# Altium schematic symbol library SBC5.SchLib: 66 symbols (part 3 of 4)
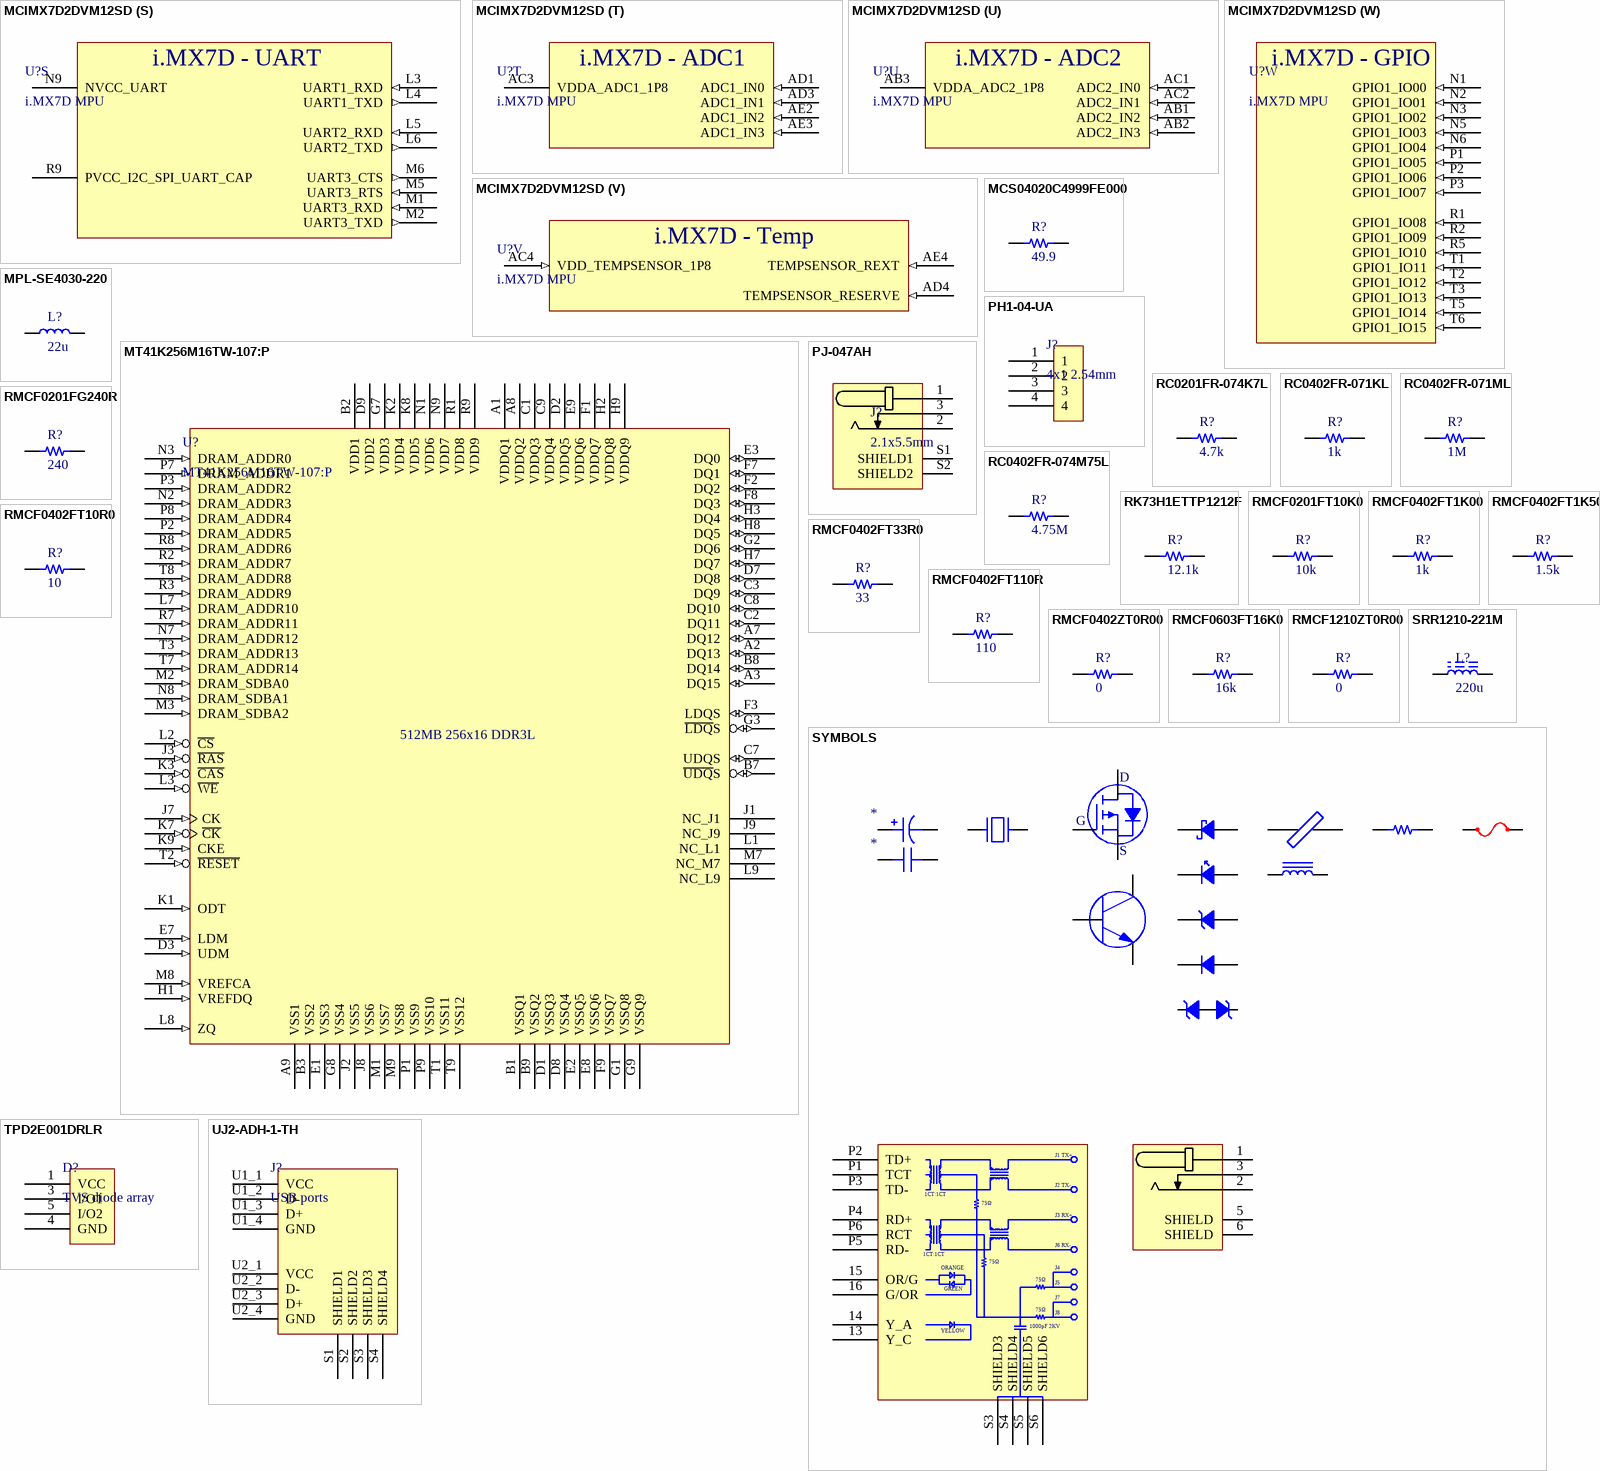
[diagram p5: symbols MCIMX7D2DVM12SD to UJ2-ADH-1-TH]

## MCIMX7D2DVM12SD
designator U?, comment i.MX7D MPU
Heterogeneous Multicore Processing Architecture; Manufacturer: NXP Freescale; Manufacturer Part Number: MCIMX7D2DVM12SD; Stock 1: 0; Pricing 1: 168=18.42238 (USD); ComponentLink1Description: Datasheet; ComponentLink1URL: https://www.nxp.com/docs/en/data-sheet/IMX7DCEC.pdf; ComponentLink2Description: Reference manual; ComponentLink2URL: https://www.nxp.com/docs/en/reference-manual/IMX7DRM.pdf; ComponentLink3Description: Hardware Development Guide; ComponentLink3URL: https://www.nxp.com/docs/en/user-guide/IMX7DSHDG.pdf; Supplier 1: Digi-Key; Supplier Part Number 1: 568-15401-ND
footprint BGA541C75P25X25_1900X1900X140 (BGA, 541-Leads, Body 19.00x19.00mmx1.40mm, Pitch 0.75mm)
ibis mx7d_19x19 (i.MX7D 19mm x 19mm 1.8V DDR3L Typical Case)
ibis mx7d_19x19 (i.MX7D 19mm x 19mm 3.3V DDR3L Typical Case)
part A pins: A1 VSS_001 "Ground", A3 VSS_002 "Ground", A6 VSS_003 "Ground", A9 VSS_004 "Ground", A13 VSS_005 "Ground", A17 VSS_006 "Ground", A21 VSS_007 "Ground", A25 VSS_008 "Ground", AA1 VSS_111 "Ground", AA2 VSS_112 "Ground", AA6 VSS_113 "Ground", AA8 VSS_114 "Ground", AA9 VDDD_1P0_CAP (power) "Secondary supply for 1P0 (internal regulator output). Requires external capacitors", AA10 PCIE_VP (power) "Supply for PCIe interface", AA11 PCIE_VP_TX (power) "Supply for PCIe PHY", AA12 PCIE_VP_RX (power) "Supply for PCIe PHY", AA15 VSS_115 "Ground", AA23 VSS_116 "Ground", AB4 VSS_117 "Ground", AB5 VSS_118 "Ground", AB7 VSS_119 "Ground", AB9 VSS_120 "Ground", AB12 VSS_121 "Ground", AC5 VDD_LPSR_1P0_CAP (power) "Secondary supply for LPSR (internal regulator output). Requires external capacitors", AC6 VSS_122 "Ground", AC9 VSS_123 "Ground", AC12 VSS_124 "Ground", AC15 VSS_125 "Ground", AC17 VSS_126 "Ground", AC19 VSS_127 "Ground", AC21 VSS_128 "Ground", AC23 VSS_129 "Ground", AD2 VSS_130 "Ground", AD5 VSS_131 "Ground", AD7 VSS_132 "Ground", AD8 VDD_SNVS_IN (power) "Primary supply for the SNVS regulator", AD9 VSS_133 "Ground", AD12 VSS_134 "Ground", AE1 VSS_135 "Ground", AE5 VSS_136 "Ground", AE7 VSS_137 "Ground", AE8 VDD_SNVS_1P8_CAP (power) "Secondary supply for SNVS (internal regulator output). Requires external capacitors", AE9 VSS_138 "Ground", AE12 VSS_139 "Ground", AE24 VSS_140 "Ground", AE25 VSS_141 "Ground", B3 VSS_009 "Ground", B6 VSS_010 "Ground", B9 VSS_011 "Ground", B13 VSS_012 "Ground", B17 VSS_013 "Ground", B21 VSS_014 "Ground", C9 VSS_015 "Ground", C13 VSS_016 "Ground", C14 VDD_SOC_01 (power) "Supply for SOC", C15 VSS_017 "Ground", C16 VSS_018 "Ground", C17 VDD_ARM_1 (power) "Supply for ARM", C18 VSS_019 "Ground", C19 VSS_020 "Ground", C20 VDD_ARM_2 (power) "Supply for ARM", D1 VSS_021 "Ground", D2 VSS_022 "Ground", D4 VSS_023 "Ground", D7 VSS_024 "Ground", D10 VSS_025 "Ground", D14 VDD_SOC_02 (power) "Supply for SOC", D17 VDD_ARM_3 (power) "Supply for ARM", D20 VDD_ARM_4 (power) "Supply for ARM", D22 VSS_026 "Ground", F3 VDD_SOC_03 (power) "Supply for SOC", F4 VDD_SOC_04 (power) "Supply for SOC", F7 VSS_027 "Ground", F8 VSS_028 "Ground", F11 VSS_029 "Ground", F13 VSS_030 "Ground", F18 VDD_SOC_05 (power) "Supply for SOC", F19 VDD_SOC_06 (power) "Supply for SOC", F22 VDD_ARM_5 (power) "Supply for ARM", F23 VDD_ARM_6 (power) "Supply for ARM", G4 VSS_031 "Ground", G7 VSS_032 "Ground", G9 VSS_033 "Ground", G11 VSS_034 "Ground", G13 VSS_035 "Ground", G15 VSS_036 "Ground", G17 VSS_037 "Ground", G19 VSS_038 "Ground", G22 VSS_039 "Ground", H1 VSS_040 "Ground", H2 VSS_041 "Ground", H12 VDD_USB_H_1P2 (power) "Supply input for the USB HSIC Interface", H18 MIPI_VREG_0P4V, J3 VDD_SOC_07 (power) "Supply for SOC", J4 VDD_SOC_08 (power) "Supply for SOC", J7 VSS_042 "Ground", J13 MIPI_VDDA_1P8 (power) "Default Function: MIPI_VDDA_1P8", J15 MIPI_VDDD_1P0_01 (power) "Default Function: MIPI_VDDD_1P0", J17 MIPI_VDDD_1P0_02 (power) "Default Function: MIPI_VDDD_1P0", J19 VSS_043 "Ground", J22 VDD_ARM_7 (power) "Supply for ARM", J23 VDD_ARM_8 (power) "Supply for ARM", K4 VSS_044 "Ground", K10 VSS_045 "Ground", K12 VSS_046 "Ground", K14 VSS_047 "Ground", K16 VSS_048 "Ground", K22 VSS_049 "Ground", L7 VSS_050 "Ground", L11 VSS_051 "Ground", L13 VSS_052 "Ground", L15 VSS_053 "Ground", L19 VSS_054 "Ground", M3 VDD_SOC_09 (power) "Supply for SOC", M4 VDD_SOC_10 (power) "Supply for SOC", M10 VSS_055 "Ground", M12 VSS_056 "Ground", M14 VSS_057 "Ground", M16 VSS_058 "Ground", M24 VSS_059 "Ground", M25 VSS_060 "Ground", N4 VSS_061 "Ground", N7 VSS_062 "Ground", N11 VSS_063 "Ground", N13 VSS_064 "Ground", N15 VSS_065 "Ground", N19 VSS_066 "Ground", P8 NVCC_GPIO1 (power) "Supply for GPIO1 interface", P10 VSS_067 "Ground", P12 VSS_068 "Ground", P14 VSS_069 "Ground", P16 VSS_070 "Ground", P18 VDD_SOC_11 (power) "Supply for SOC", R3 VDD_SOC_12 (power) "Supply for SOC", R4 VDD_SOC_13 (power) "Supply for SOC", R7 VSS_071 "Ground", R11 VSS_072 "Ground", R13 VSS_073 "Ground", R15 VSS_074 "Ground", R17 VDD_SOC_14 (power) "Supply for SOC", R19 VSS_075 "Ground", R20 VSS_076 "Ground", R21 VSS_077 "Ground", R23 VSS_078 "Ground", T4 VSS_079 "Ground", T8 NVCC_GPIO2 (power) "Supply for GPIO2 interface", T10 VSS_080 "Ground", T12 VSS_081 "Ground", T14 VSS_082 "Ground", T16 VSS_083 "Ground", T18 VDD_SOC_15 (power) "Supply for SOC", T20 VSS_084 "Ground", U7 VSS_085 "Ground", U9 VDD_1P2_CAP (power) "Supply for HSIC", U11 VSS_086 "Ground", U13 VDD_SOC_16 (power) "Supply for SOC", U15 VDD_SOC_17 (power) "Supply for SOC", U17 VDD_SOC_18 (power) "Supply for SOC", U19 VSS_087 "Ground", U20 VSS_088 "Ground", U23 VSS_089 "Ground", V3 VDDA_1P0_CAP (power) "Secondary supply for 1P0 (internal regulator output). Requires external capacitors", V6 VDDA_1P8_IN_1 (power), V8 FUSE_FSOURCE0 (power), V10 PVCC_GPIO_CAP (power) "Secondary supply for GPIO (internal regulator output). Requires external capacitors", V12 VDD_SOC_19 (power) "Supply for SOC", V14 VDD_SOC_20 (power) "Supply for SOC", V16 VDD_SOC_21 (power) "Supply for SOC", V18 VDD_SOC_22 (power) "Supply for SOC", V20 VSS_090 "Ground", W1 VSS_091 "Ground", W2 VSS_092 "Ground", W4 VSS_093 "Ground", W5 VDDA_1P8_IN_2 (power), W6 VDD_LPSR_IN (power) "Supply for LPSR", W7 VSS_094 "Ground", W9 VSS_095 "Ground", W11 VSS_096 "Ground", W13 VSS_097 "Ground", W15 VSS_098 "Ground", W17 VSS_099 "Ground", W19 VSS_100 "Ground", W20 VSS_101 "Ground", W23 VSS_102 "Ground", Y6 VSS_103 "Ground", Y9 VDDA_PHY_1P8 (power), Y10 PCIE_VPH (power), Y11 PCIE_VPH_TX (power), Y12 PCIE_VPH_RX (power), Y13 VSS_104 "Ground", Y14 VSS_105 "Ground", Y15 VSS_106 "Ground", Y16 VSS_107 "Ground", Y17 VSS_108 "Ground", Y18 VSS_109 "Ground", Y19 VSS_110 "Ground"
part B pins: A7 USB_OTG1_REXT (io) "Default Function: USB_OTG1_REXT", A8 USB_OTG1_DN (io) "Default Function: USB_OTG1_DN", B7 USB_OTG1_ID (in) "Default Function: USB_OTG1_ID", B8 USB_OTG1_DP (io) "Default Function: USB_OTG1_DP", C7 ~{USB_OTG1_CHD_B} (io) "Default Function: USB_OTG1_CHD_B", C8 USB_OTG1_VBUS (power), F10 USB_OTG1_VDDA_3P3_IN (power), H10 VDD_USB_OTG1_1P0_CAP (power) "Secondary supply for USB OTG (internal regulator output). Requires external capacitors"
part C pins: A10 USB_OTG2_DN (io) "Default Function: USB_OTG2_DN", A11 USB_OTG2_REXT (io) "Default Function: USB_OTG2_REXT", B10 USB_OTG2_DP (io) "Default Function: USB_OTG2_DP", B11 USB_OTG2_ID (in) "Default Function: USB_OTG2_ID", C10 USB_OTG2_VBUS (power), F9 USB_OTG2_VDDA_3P3_IN (power), J11 VDD_USB_OTG2_1P0_CAP (power) "Secondary supply for USB OTG (internal regulator output). Requires external capacitors"
part D pins: A12 USB_H_DATA (io) "Default Function: USB_H_DATA", B12 USB_H_STROBE (io) "Default Function: USB_H_STROBE"
part E pins: AA14 DRAM_ODT1 (out) "Ball type: DDR Default Function: DRAM_ODT1", AA16 NVCC_DRAM_06 (power) "DDR Power Pin 6", AA17 NVCC_DRAM_07 (power) "DDR Power Pin 7", AA18 NVCC_DRAM_08 (power) "DDR Power Pin 8", AA19 NVCC_DRAM_09 (power) "DDR Power Pin 9", AA20 NVCC_DRAM_10 (power) "DDR Power Pin 10", AA21 NVCC_DRAM_11 (power) "DDR Power Pin 11", AA22 ~{DRAM_CS1_B} (out) "Ball type: DDR Default Function: DRAM_CS1_B", AA24 DRAM_DQM2 (io) "Ball type: DDR Default Function: DRAM_DQM2", AA25 DRAM_DATA16 (io) "Ball type: DDR Default Function: DRAM_DATA16", AB13 DRAM_ZQPAD (io) "DDR output buffer driver calibration reference voltage input. Connect DRAM_ZQPAD to an external 240 Ω 1% resistor to Vss", AB14 ~{DRAM_SDWE_B} (out) "Ball type: DDR Default Function: DRAM_SDWE_B", AB15 ~{DRAM_RAS_B} (out) "Ball type: DDR Default Function: DRAM_RAS_B", AB16 DRAM_ADDR01 (out) "Ball type: DDR Default Function: DRAM_ADDR01", AB17 DRAM_SDCKE0 (out) "Ball type: DDR Default Function: DRAM_SDCKE0", AB18 DRAM_ADDR14 (out) "Ball type: DDR Default Function: DRAM_ADDR14", AB19 DRAM_ADDR00 (out) "Ball type: DDR Default Function: DRAM_ADDR00", AB20 DRAM_ADDR15 (out) "Ball type: DDR Default Function: DRAM_ADDR15", AB21 DRAM_ADDR04 (out) "Ball type: DDR Default Function: DRAM_ADDR04", AB22 DRAM_SDCKE1 (out) "Ball type: DDR Default Function: DRAM_SDCKE1", AB23 ~{DRAM_CS0_B} (out) "Ball type: DDR Default Function: DRAM_CS0_B", AB24 DRAM_DATA22 (io) "Ball type: DDR Default Function: DRAM_DATA22", AB25 DRAM_DATA21 (io) "Ball type: DDR Default Function: DRAM_DATA21", AC13 DRAM_VREF (power) "DDR Differential Reference", AC14 ~{DRAM_CAS_B} (out) "Ball type: DDR Default Function: DRAM_CAS_B", AC16 DRAM_ODT0 (out) "Ball type: DDR Default Function: DRAM_ODT0", AC18 DRAM_ADDR02 (out) "Ball type: DDR Default Function: DRAM_ADDR02", AC20 DRAM_ADDR03 (out) "Ball type: DDR Default Function: DRAM_ADDR03", AC22 DRAM_RESET (out) "Ball type: DDR Default Function: DRAM_RESET", AC24 DRAM_DATA23 (io) "Ball type: DDR Default Function: DRAM_DATA23", AC25 DRAM_DATA20 (io) "Ball type: DDR Default Function: DRAM_DATA20", AD13 DRAM_DATA14 (io) "Ball type: DDR Default Function: DRAM_DATA14", AD14 DRAM_DATA13 (io) "Ball type: DDR Default Function: DRAM_DATA13", AD15 DRAM_SDQS1_P (io) "Ball type: DDRCLK Default Function: DRAM_SDQS1_P", AD16 DRAM_DATA11 (io) "Ball type: DDR Default Function: DRAM_DATA11", AD17 DRAM_DQM1 (io) "Ball type: DDR Default Function: DRAM_DQM1", AD18 DRAM_DATA06 (io) "Ball type: DDR Default Function: DRAM_DATA06", AD19 DRAM_DATA05 (io) "Ball type: DDR Default Function: DRAM_DATA05", AD20 DRAM_DQM0 (io) "Ball type: DDR Default Function: DRAM_DQM0", AD21 DRAM_SDQS0_N (io) "Ball type: DDRCLK Default Function: DRAM_SDQS0_N", AD22 DRAM_DATA00 (io) "Ball type: DDR Default Function: DRAM_DATA00", AD23 DRAM_DATA01 (io) "Ball type: DDR Default Function: DRAM_DATA01", AD24 DRAM_SDCLK0_P "Ball type: DDRCLK Default Function: DRAM_SDCLK0_P", AD25 DRAM_SDCLK0_N "Ball type: DDRCLK Default Function: DRAM_SDCLK0_N", AE13 DRAM_DATA15 (io) "Ball type: DDR Default Function: DRAM_DATA15", AE14 DRAM_DATA08 (io) "Ball type: DDR Default Function: DRAM_DATA08", AE15 DRAM_SDQS1_N (io) "Ball type: DDRCLK Default Function: DRAM_SDQS1_N", AE16 DRAM_DATA12 (io) "Ball type: DDR Default Function: DRAM_DATA12", AE17 DRAM_DATA10 (io) "Ball type: DDR Default Function: DRAM_DATA10", AE18 DRAM_DATA09 (io) "Ball type: DDR Default Function: DRAM_DATA09", AE19 DRAM_DATA07 (io) "Ball type: DDR Default Function: DRAM_DATA07", AE20 DRAM_DATA02 (io) "Ball type: DDR Default Function: DRAM_DATA02", AE21 DRAM_SDQS0_P (io) "Ball type: DDRCLK Default Function: DRAM_SDQS0_P", AE22 DRAM_DATA04 (io) "Ball type: DDR Default Function: DRAM_DATA04", AE23 DRAM_DATA03 (io) "Ball type: DDR Default Function: DRAM_DATA03", N23 DRAM_SDBA2 (out) "Ball type: DDR Default Function: DRAM_SDBA2", N24 DRAM_DATA25 (io) "Ball type: DDR Default Function: DRAM_DATA25", N25 DRAM_DATA27 (io) "Ball type: DDR Default Function: DRAM_DATA27", P22 DRAM_SDBA1 (out) "Ball type: DDR Default Function: DRAM_SDBA1", P23 DRAM_ADDR13 (out) "Ball type: DDR Default Function: DRAM_ADDR13", P24 DRAM_DQM3 (io) "Ball type: DDR Default Function: DRAM_DQM3", P25 DRAM_DATA26 (io) "Ball type: DDR Default Function: DRAM_DATA26", R22 DRAM_SDBA0 (out) "Ball type: DDR Default Function: DRAM_SDBA0", R24 DRAM_DATA29 (io) "Ball type: DDR Default Function: DRAM_DATA29", R25 DRAM_DATA24 (io) "Ball type: DDR Default Function: DRAM_DATA24", T21 NVCC_DRAM_01 (power) "DDR Power Pin 1", T22 DRAM_ADDR12 (out) "Ball type: DDR Default Function: DRAM_ADDR12", T23 DRAM_ADDR10 (out) "Ball type: DDR Default Function: DRAM_ADDR10", T24 DRAM_SDQS3_P (io) "Ball type: DDRCLK Default Function: DRAM_SDQS3_P", T25 DRAM_SDQS3_N (io) "Ball type: DDRCLK Default Function: DRAM_SDQS3_N", U21 NVCC_DRAM_02 (power) "DDR Power Pin 2", U22 DRAM_ADDR11 (out) "Ball type: DDR Default Function: DRAM_ADDR11", U24 DRAM_DATA30 (io) "Ball type: DDR Default Function: DRAM_DATA30", U25 DRAM_DATA28 (io) "Ball type: DDR Default Function: DRAM_DATA28", V21 NVCC_DRAM_03 (power) "DDR Power Pin 3", V22 DRAM_ADDR06 (out) "Ball type: DDR Default Function: DRAM_ADDR06", V23 DRAM_ADDR09 (out) "Ball type: DDR Default Function: DRAM_ADDR09", V24 DRAM_DATA31 (io) "Ball type: DDR Default Function: DRAM_DATA31", V25 DRAM_DATA18 (io) "Ball type: DDR Default Function: DRAM_DATA18", W21 NVCC_DRAM_04 (power) "DDR Power Pin 4", W22 DRAM_ADDR08 (out) "Ball type: DDR Default Function: DRAM_ADDR08", W24 DRAM_DATA17 (io) "Ball type: DDR Default Function: DRAM_DATA17", W25 DRAM_DATA19 (io) "Ball type: DDR Default Function: DRAM_DATA19", Y20 NVCC_DRAM_CKE (power) "DDR Clock Power Pin", Y21 NVCC_DRAM_05 (power) "DDR Power Pin 5", Y22 DRAM_ADDR07 (out) "Ball type: DDR Default Function: DRAM_ADDR07", Y23 DRAM_ADDR05 (out) "Ball type: DDR Default Function: DRAM_ADDR05", Y24 DRAM_SDQS2_P (io) "Ball type: DDRCLK Default Function: DRAM_SDQS2_P", Y25 DRAM_SDQS2_N (io) "Ball type: DDRCLK Default Function: DRAM_SDQS2_N"
part F pins: AA3 SNVS_TAMPER8 (in) "Ball type: Analog Default Function: SNVS_TAMPER8", AA4 SNVS_TAMPER6 (in) "Ball type: Analog Default Function: SNVS_TAMPER6", AA5 SNVS_TAMPER4 (in) "Ball type: Analog Default Function: SNVS_TAMPER4", AA7 SNVS_TAMPER0 (in) "Ball type: Analog Default Function: SNVS_TAMPER0", AB6 SNVS_TAMPER2 (in) "Ball type: Analog Default Function: SNVS_TAMPER2", AB8 SNVS_PMIC_ON_REQ (out) "Default Function: SNVS_PMIC_ON_REQ", AC7 CCM_PMIC_STBY_REQ (out) "Default Function: CCM_PMIC_STBY_REQ", AC8 ONOFF (in) "Default Function: ONOFF", AD6 RTC_XTALO (out) "Default Function: RTC_XTALO", AE6 RTC_XTALI (in) "Default Function: RTC_XTALI", P4 BOOT_MODE0 (in) "Ball type: GPIO Default Mode: ALT0 Default Function: BOOT_MODE0 Pull Down Value: 100K", P5 BOOT_MODE1 (in) "Ball type: GPIO Default Mode: ALT0 Default Function: BOOT_MODE1 Pull Down Value: 100K", P6 TEST_MODE (in) "Ball type: GPIO Default Mode: ALT0 Default Function: TEST_MODE Pull Down Value: 100K", R6 ~{POR_B} (in) "Ball type: GPIO Default Mode: ALT0 Default Function: POR_B Pull UP Value: 100K", U1 JTAG_MOD (in) "Ball type: GPIO Default Mode: ALT0 Default Function: JTAG_MOD Pull UP Value: 100K", U2 ~{JTAG_TRST_B} (in) "Ball type: GPIO Default Mode: ALT0 Default Function: JTAG_TRST_B Pull UP Value: 47K", U3 JTAG_TDI (in) "Ball type: GPIO Default Mode: ALT0 Default Function: JTAG_TDI Pull UP Value: 47K", U4 JTAG_TMS (in) "Ball type: GPIO Default Mode: ALT0 Default Function: JTAG_TMS Pull UP Value: 47K", U5 JTAG_TCK (in) "Ball type: GPIO Default Mode: ALT0 Default Function: JTAG_TCK Pull UP Value: 47K", U6 JTAG_TDO (out) "Ball type: GPIO Default Mode: ALT0 Default Function: JTAG_TDO Pull UP Value: 100K", V1 XTALI (in) "Default Function: XTALI", V2 XTALO (out) "Default Function: XTALO", V4 GPANAIO "Test signal. Should be left unconnected.", V5 VDD_XTAL_1P8, W3 CCM_CLK2 (in) "Default Function: CCM_CLK2", Y1 CCM_CLK1_N (in) "Default Function: CCM_CLK1_N", Y2 CCM_CLK1_P (out) "Default Function: CCM_CLK1_P", Y3 SNVS_TAMPER9 (in) "Ball type: Analog Default Function: SNVS_TAMPER9", Y4 SNVS_TAMPER7 (in) "Ball type: Analog Default Function: SNVS_TAMPER7", Y5 SNVS_TAMPER5 (in) "Ball type: Analog Default Function: SNVS_TAMPER5", Y7 SNVS_TAMPER3 (in) "Ball type: Analog Default Function: SNVS_TAMPER3", Y8 SNVS_TAMPER1 (in) "Ball type: Analog Default Function: SNVS_TAMPER1"
part G pins: A22 LCD_DATA01 (in) "Ball type: GPIO Default Mode: ALT5 Default Function: GPIO3_IO[6] Pull Down Value: 100K", A23 LCD_DATA03 (in) "Ball type: GPIO Default Mode: ALT5 Default Function: GPIO3_IO[8] Pull Down Value: 100K", A24 LCD_DATA06 (in) "Ball type: GPIO Default Mode: ALT5 Default Function: GPIO3_IO[11] Pull Down Value: 100K", B22 LCD_DATA02 (in) "Ball type: GPIO Default Mode: ALT5 Default Function: GPIO3_IO[7] Pull Down Value: 100K", B23 LCD_DATA05 (in) "Ball type: GPIO Default Mode: ALT5 Default Function: GPIO3_IO[10] Pull Down Value: 100K", B24 LCD_DATA10 (in) "Ball type: GPIO Default Mode: ALT5 Default Function: GPIO3_IO[15] Pull Down Value: 100K", B25 LCD_DATA16 (in) "Ball type: GPIO Default Mode: ALT5 Default Function: GPIO3_IO[21] Pull Down Value: 100K", C21 LCD_RESET (in) "Ball type: GPIO Default Mode: ALT5 Default Function: GPIO3_IO[4] Pull Down Value: 100K", C22 LCD_DATA04 (in) "Ball type: GPIO Default Mode: ALT5 Default Function: GPIO3_IO[9] Pull Down Value: 100K", C23 LCD_DATA09 (in) "Ball type: GPIO Default Mode: ALT5 Default Function: GPIO3_IO[14] Pull Down Value: 100K", C24 LCD_DATA15 (in) "Ball type: GPIO Default Mode: ALT5 Default Function: GPIO3_IO[20] Pull Down Value: 100K", C25 LCD_DATA20 (in) "Ball type: GPIO Default Mode: ALT5 Default Function: GPIO3_IO[25] Pull Down Value: 100K", D21 LCD_DATA00 (in) "Ball type: GPIO Default Mode: ALT5 Default Function: GPIO3_IO[5] Pull Down Value: 100K", D23 LCD_DATA14 (in) "Ball type: GPIO Default Mode: ALT5 Default Function: GPIO3_IO[19] Pull Down Value: 100K", D24 LCD_DATA19 (in) "Ball type: GPIO Default Mode: ALT5 Default Function: GPIO3_IO[24] Pull Down Value: 100K", D25 LCD_DATA22 (in) "Ball type: GPIO Default Mode: ALT5 Default Function: GPIO3_IO[27] Pull Down Value: 100K", E20 LCD_CLK (in) "Ball type: GPIO Default Mode: ALT5 Default Function: GPIO3_IO[0] Pull Down Value: 100K", E21 LCD_DATA08 (in) "Ball type: GPIO Default Mode: ALT5 Default Function: GPIO3_IO[13] Pull Down Value: 100K", E22 LCD_DATA13 (in) "Ball type: GPIO Default Mode: ALT5 Default Function: GPIO3_IO[18] Pull Down Value: 100K", E23 LCD_DATA18 (in) "Ball type: GPIO Default Mode: ALT5 Default Function: GPIO3_IO[23] Pull Down Value: 100K", E24 LCD_DATA21 (in) "Ball type: GPIO Default Mode: ALT5 Default Function: GPIO3_IO[26] Pull Down Value: 100K", E25 LCD_HSYNC (in) "Ball type: GPIO Default Mode: ALT5 Default Function: GPIO3_IO[2] Pull Down Value: 100K", F20 LCD_DATA07 (in) "Ball type: GPIO Default Mode: ALT5 Default Function: GPIO3_IO[12] Pull Down Value: 100K", F21 LCD_DATA12 (in) "Ball type: GPIO Default Mode: ALT5 Default Function: GPIO3_IO[17] Pull Down Value: 100K", F24 LCD_VSYNC (in) "Ball type: GPIO Default Mode: ALT5 Default Function: GPIO3_IO[3] Pull Down Value: 100K", F25 LCD_ENABLE (in) "Ball type: GPIO Default Mode: ALT5 Default Function: GPIO3_IO[1] Pull Down Value: 100K", G20 LCD_DATA11 (in) "Ball type: GPIO Default Mode: ALT5 Default Function: GPIO3_IO[16] Pull Down Value: 100K", G21 LCD_DATA17 (in) "Ball type: GPIO Default Mode: ALT5 Default Function: GPIO3_IO[22] Pull Down Value: 100K", G23 LCD_DATA23 (in) "Ball type: GPIO Default Mode: ALT5 Default Function: GPIO3_IO[28] Pull Down Value: 100K", K18 NVCC_LCD (power) "Supply for LCD interface", N17 PVCC_EPDC_LCD_CAP (power) "Secondary supply for EPDC_LCD (internal regulator output). Requires external capacitors"
part H pins: G24 EPDC_SDCE1 (out) "Ball type: GPIO Default Mode: ALT5 Default Function: GPIO2_IO[21] Pull Down Value: 100K", G25 EPDC_SDCE0 (out) "Ball type: GPIO Default Mode: ALT5 Default Function: GPIO2_IO[20] Pull Down Value: 100K", H20 EPDC_SDSHR (out) "Ball type: GPIO Default Mode: ALT5 Default Function: GPIO2_IO[19] Pull Down Value: 100K", H21 EPDC_SDOE (out) "Ball type: GPIO Default Mode: ALT5 Default Function: GPIO2_IO[18] Pull Down Value: 100K", H22 EPDC_SDCE3 (out) "Ball type: GPIO Default Mode: ALT5 Default Function: GPIO2_IO[23] Pull Down Value: 100K", H23 EPDC_SDCE2 (out) "Ball type: GPIO Default Mode: ALT5 Default Function: GPIO2_IO[22] Pull Down Value: 100K", H24 EPDC_PWRCOM (out) "Ball type: GPIO Default Mode: ALT5 Default Function: GPIO2_IO[30] Pull Down Value: 100K", H25 EPDC_GDSP (out) "Ball type: GPIO Default Mode: ALT5 Default Function: GPIO2_IO[27] Pull Down Value: 100K", J20 EPDC_SDLE (out) "Ball type: GPIO Default Mode: ALT5 Default Function: GPIO2_IO[17] Pull Down Value: 100K", J21 EPDC_SDCLK (out) "Ball type: GPIO Default Mode: ALT5 Default Function: GPIO2_IO[16] Pull Down Value: 100K", J24 EPDC_GDOE (out) "Ball type: GPIO Default Mode: ALT5 Default Function: GPIO2_IO[25] Pull Down Value: 100K", J25 EPDC_GDCLK (out) "Ball type: GPIO Default Mode: ALT5 Default Function: GPIO2_IO[24] Pull Down Value: 100K", K20 EPDC_PWRSTAT (in) "Ball type: GPIO Default Mode: ALT5 Default Function: GPIO2_IO[31] Pull Down Value: 100K", K21 EPDC_GDRL (out) "Ball type: GPIO Default Mode: ALT5 Default Function: GPIO2_IO[26] Pull Down Value: 100K", K23 EPDC_BDR1 (out) "Ball type: GPIO Default Mode: ALT5 Default Function: GPIO2_IO[29] Pull Down Value: 100K", K24 EPDC_BDR0 (out) "Ball type: GPIO Default Mode: ALT5 Default Function: GPIO2_IO[28] Pull Down Value: 100K", K25 EPDC_D15 (out) "Ball type: GPIO Default Mode: ALT5 Default Function: GPIO2_IO[15] Pull Down Value: 100K", L17 NVCC_EPDC2 (power) "Supply for EPDC interface", L20 EPDC_D14 (out) "Ball type: GPIO Default Mode: ALT5 Default Function: GPIO2_IO[14] Pull Down Value: 100K", L21 EPDC_D13 (out) "Ball type: GPIO Default Mode: ALT5 Default Function: GPIO2_IO[13] Pull Down Value: 100K", L22 EPDC_D12 (out) "Ball type: GPIO Default Mode: ALT5 Default Function: GPIO2_IO[12] Pull Down Value: 100K", L23 EPDC_D11 (out) "Ball type: GPIO Default Mode: ALT5 Default Function: GPIO2_IO[11] Pull Down Value: 100K", L24 EPDC_D10 (out) "Ball type: GPIO Default Mode: ALT5 Default Function: GPIO2_IO[10] Pull Down Value: 100K", L25 EPDC_D09 (out) "Ball type: GPIO Default Mode: ALT5 Default Function: GPIO2_IO[9] Pull Down Value: 100K", M18 NVCC_EPDC1 (power) "Supply for EPDC interface", M20 EPDC_D05 (out) "Ball type: GPIO Default Mode: ALT5 Default Function: GPIO2_IO[5] Pull Down Value: 100K", M21 EPDC_D06 (out) "Ball type: GPIO Default Mode: ALT5 Default Function: GPIO2_IO[6] Pull Down Value: 100K", M22 EPDC_D07 (out) "Ball type: GPIO Default Mode: ALT5 Default Function: GPIO2_IO[7] Pull Down Value: 100K", M23 EPDC_D08 (out) "Ball type: GPIO Default Mode: ALT5 Default Function: GPIO2_IO[8] Pull Down Value: 100K", N20 EPDC_D02 (out) "Ball type: GPIO Default Mode: ALT5 Default Function: GPIO2_IO[2] Pull Down Value: 100K", N21 EPDC_D03 (out) "Ball type: GPIO Default Mode: ALT5 Default Function: GPIO2_IO[3] Pull Down Value: 100K", N22 EPDC_D04 (out) "Ball type: GPIO Default Mode: ALT5 Default Function: GPIO2_IO[4] Pull Down Value: 100K", P20 EPDC_D00 (out) "Ball type: GPIO Default Mode: ALT5 Default Function: GPIO2_IO[0] Pull Down Value: 100K", P21 EPDC_D01 (out) "Ball type: GPIO Default Mode: ALT5 Default Function: GPIO2_IO[1] Pull Down Value: 100K"
part I pins: C11 SAI1_TXC (io) "Ball type: GPIO Default Mode: ALT5 Default Function: GPIO6_IO[13] Pull Down Value: 100K", C12 SAI1_RXFS (io) "Ball type: GPIO Default Mode: ALT5 Default Function: GPIO6_IO[16] Pull Down Value: 100K", D8 SAI2_TXC (io) "Ball type: GPIO Default Mode: ALT5 Default Function: GPIO6_IO[20] Pull Down Value: 100K", D9 SAI2_TXFS (io) "Ball type: GPIO Default Mode: ALT5 Default Function: GPIO6_IO[19] Pull Down Value: 100K", D11 SAI1_TXFS (io) "Ball type: GPIO Default Mode: ALT5 Default Function: GPIO6_IO[14] Pull Down Value: 100K", D12 SAI1_RXC (io) "Ball type: GPIO Default Mode: ALT5 Default Function: GPIO6_IO[17] Pull Down Value: 100K", E8 SAI2_TXD (out) "Ball type: GPIO Default Mode: ALT5 Default Function: GPIO6_IO[22] Pull Down Value: 100K", E9 SAI2_RXD (in) "Ball type: GPIO Default Mode: ALT5 Default Function: GPIO6_IO[21] Pull Down Value: 100K", E10 SAI1_MCLK (io) "Ball type: GPIO Default Mode: ALT5 Default Function: GPIO6_IO[18] Pull Down Value: 100K", E11 SAI1_TXD (out) "Ball type: GPIO Default Mode: ALT5 Default Function: GPIO6_IO[15] Pull Down Value: 100K", E12 SAI1_RXD (in) "Ball type: GPIO Default Mode: ALT5 Default Function: GPIO6_IO[12] Pull Down Value: 100K", F12 NVCC_SAI (power) "Supply for SAI interface"
part J pins: A4 SD1_DATA2 (io) "Ball type: GPIO Default Mode: ALT5 Default Function: GPIO5_IO[7] Pull Down Value: 100K", A5 SD1_DATA0 (io) "Ball type: GPIO Default Mode: ALT5 Default Function: GPIO5_IO[5] Pull Down Value: 100K", B4 ~{SD1_RESET_B} (out) "Ball type: GPIO Default Mode: ALT5 Default Function: GPIO5_IO[2] Pull Down Value: 100K", B5 SD1_CLK (out) "Ball type: GPIO Default Mode: ALT5 Default Function: GPIO5_IO[3] Pull Down Value: 100K", C4 SD1_WP (in) "Ball type: GPIO Default Mode: ALT5 Default Function: GPIO5_IO[1] Pull Down Value: 100K", C5 SD1_CMD (io) "Ball type: GPIO Default Mode: ALT5 Default Function: GPIO5_IO[4] Pull Down Value: 100K", C6 ~{SD1_CD_B} (in) "Ball type: GPIO Default Mode: ALT5 Default Function: GPIO5_IO[0] Pull Down Value: 100K", D5 SD1_DATA3 (io) "Ball type: GPIO Default Mode: ALT5 Default Function: GPIO5_IO[8] Pull Down Value: 100K", D6 SD1_DATA1 (io) "Ball type: GPIO Default Mode: ALT5 Default Function: GPIO5_IO[6] Pull Down Value: 100K", E7 NVCC_SD1 (power) "Supply for SD card interface", J9 PVCC_SAI_SD_CAP (power) "Secondary supply for SAI_SD (internal regulator output). Requires external capacitors"
part K pins: C3 SD2_WP (in) "Ball type: GPIO Default Mode: ALT5 Default Function: GPIO5_IO[10] Pull Down Value: 100K", D3 ~{SD2_CD_B} (in) "Ball type: GPIO Default Mode: ALT5 Default Function: GPIO5_IO[9] Pull Down Value: 100K", E3 SD2_CLK (out) "Ball type: GPIO Default Mode: ALT5 Default Function: GPIO5_IO[12] Pull Down Value: 100K", E4 SD2_DATA0 (io) "Ball type: GPIO Default Mode: ALT5 Default Function: GPIO5_IO[14] Pull Down Value: 100K", E5 SD2_DATA1 (io) "Ball type: GPIO Default Mode: ALT5 Default Function: GPIO5_IO[15] Pull Down Value: 100K", E6 SD2_DATA3 (io) "Ball type: GPIO Default Mode: ALT5 Default Function: GPIO5_IO[17] Pull Down Value: 100K", F5 SD2_DATA2 (io) "Ball type: GPIO Default Mode: ALT5 Default Function: GPIO5_IO[16] Pull Down Value: 100K", F6 SD2_CMD (io) "Ball type: GPIO Default Mode: ALT5 Default Function: GPIO5_IO[13] Pull Down Value: 100K", G3 ~{SD2_RESET_B} (out) "Ball type: GPIO Default Mode: ALT5 Default Function: GPIO5_IO[11] Pull Down Value: 100K", H8 NVCC_SD2 (power) "Supply for SD card interface"
part L pins: A2 SD3_DATA1 (io) "Ball type: GPIO Default Mode: ALT5 Default Function: GPIO6_IO[3] Pull Down Value: 100K", B1 SD3_DATA7 (io) "Ball type: GPIO Default Mode: ALT5 Default Function: GPIO6_IO[9] Pull Down Value: 100K", B2 SD3_DATA0 (io) "Ball type: GPIO Default Mode: ALT5 Default Function: GPIO6_IO[2] Pull Down Value: 100K", C1 SD3_CLK (out) "Ball type: GPIO Default Mode: ALT5 Default Function: GPIO6_IO[0] Pull Down Value: 100K", C2 SD3_DATA6 (io) "Ball type: GPIO Default Mode: ALT5 Default Function: GPIO6_IO[8] Pull Down Value: 100K", E1 SD3_CMD (io) "Ball type: GPIO Default Mode: ALT5 Default Function: GPIO6_IO[1] Pull Down Value: 100K", E2 SD3_DATA5 (io) "Ball type: GPIO Default Mode: ALT5 Default Function: GPIO6_IO[7] Pull Down Value: 100K", F1 SD3_DATA3 (io) "Ball type: GPIO Default Mode: ALT5 Default Function: GPIO6_IO[5] Pull Down Value: 100K", F2 SD3_DATA4 (io) "Ball type: GPIO Default Mode: ALT5 Default Function: GPIO6_IO[6] Pull Down Value: 100K", G1 ~{SD3_RESET_B} (out) "Ball type: GPIO Default Mode: ALT5 Default Function: GPIO6_IO[11] Pull Down Value: 100K", G2 SD3_DATA2 (io) "Ball type: GPIO Default Mode: ALT5 Default Function: GPIO6_IO[4] Pull Down Value: 100K", J1 SD3_STROBE (io) "Ball type: GPIO Default Mode: ALT5 Default Function: GPIO6_IO[10] Pull Down Value: 100K", K8 NVCC_SD3 (power) "Supply for SD card interface"
part M pins: D13 ENET1_RD2 (in) "Ball type: GPIO Default Mode: ALT5 Default Function: GPIO_IO[2] Pull Down Value: 100K", D15 ENET1_RX_CLK (in) "Ball type: GPIO Default Mode: ALT5 Default Function: GPIO7_IO[13] Pull Down Value: 100K", D16 ENET1_TX_CLK (out) "Ball type: GPIO Default Mode: ALT5 Default Function: GPIO7_IO[12] Pull Down Value: 100K", D18 ENET1_TD3 (out) "Ball type: GPIO Default Mode: ALT5 Default Function: GPIO7_IO[9] Pull Down Value: 100K", D19 ENET1_COL (in) "Ball type: GPIO Default Mode: ALT5 Default Function: GPIO7_IO[15] Pull Down Value: 100K", E13 ENET1_RD3 (in) "Ball type: GPIO Default Mode: ALT5 Default Function: GPIO7_IO[3] Pull Down Value: 100K", E14 ENET1_RD0 (in) "Ball type: GPIO Default Mode: ALT5 Default Function: GPIO7_IO[0] Pull Down Value: 100K", E15 ENET1_RX_CTL (in) "Ball type: GPIO Default Mode: ALT5 Default Function: GPIO7_IO[4] Pull Down Value: 100K", E16 ENET1_TX_CTL (out) "Ball type: GPIO Default Mode: ALT5 Default Function: GPIO7_IO[10] Pull Down Value: 100K", E17 ENET1_TD1 (out) "Ball type: GPIO Default Mode: ALT5 Default Function: GPIO_IO[7] Pull Down Value: 100K", E18 ENET1_TD2 (out) "Ball type: GPIO Default Mode: ALT5 Default Function: GPIO7_IO[8] Pull Down Value: 100K", E19 ENET1_CRS (in) "Ball type: GPIO Default Mode: ALT5 Default Function: GPIO7_IO[14] Pull Down Value: 100K", F14 ENET1_RD1 (in) "Ball type: GPIO Default Mode: ALT5 Default Function: GPIO7_IO[1] Pull Down Value: 100K", F15 ENET1_RXC (in) "Ball type: GPIO Default Mode: ALT5 Default Function: GPIO7_IO[5] Pull Down Value: 100K", F16 ENET1_TXC (out) "Ball type: GPIO Default Mode: ALT5 Default Function: GPIO7_IO[11] Pull Down Value: 100K", F17 ENET1_TD0 (out) "Ball type: GPIO Default Mode: ALT5 Default Function: GPIO7_IO[6] Pull Down Value: 100K", H14 PVCC_ENET_CAP (power) "Secondary supply for ENET (internal regulator output). Requires external capacitors", H16 NVCC_ENET1 (power) "Supply for ENET interface"
part N pins: A14 MIPI_CSI_D1_N (in) "Default Function: MIPI_CSI_D1_N", A15 MIPI_CSI_CLK_N (in) "Default Function: MIPI_CSI_CLK_N", A16 MIPI_CSI_D0_N (in) "Default Function: MIPI_CSI_D0_N", B14 MIPI_CSI_D1_P (in) "Default Function: MIPI_CSI_D1_P", B15 MIPI_CSI_CLK_P (in) "Default Function: MIPI_CSI_CLK_P", B16 MIPI_CSI_D0_P (in) "Default Function: MIPI_CSI_D0_P"
part O pins: A18 MIPI_DSI_D1_N (in) "Default Function: MIPI_DSI_D1_N", A19 MIPI_DSI_CLK_N (in) "Default Function: MIPI_DSI_CLK_N", A20 MIPI_DSI_D0_N (in) "Default Function: MIPI_DSI_D0_N", B18 MIPI_DSI_D1_P (in) "Default Function: MIPI_DSI_D1_P", B19 MIPI_DSI_CLK_P (in) "Default Function: MIPI_DSI_CLK_P", B20 MIPI_DSI_D0_P (in) "Default Function: MIPI_DSI_D0_P"
part P pins: AA13 PCIE_REXT (io) "Default Function: PCIE_REXT", AB10 PCIE_REFCLKOUT_P (out) "Default Function: PCIE_REFCLKOUT_P", AB11 PCIE_TX_P (out) "Default Function: PCIE_TX_P", AC10 PCIE_REFCLKOUT_N (out) "Default Function: PCIE_REFCLKOUT_N", AC11 PCIE_TX_N (out) "Default Function: PCIE_TX_N", AD10 PCIE_REFCLKIN_P (in) "Default Function: PCIE_REFCLKIN_P", AD11 PCIE_RX_P (in) "Default Function: PCIE_RX_P", AE10 PCIE_REFCLKIN_N (in) "Default Function: PCIE_REFCLKIN_N", AE11 PCIE_RX_N (in) "Default Function: PCIE_RX_N"
part Q pins: J2 I2C1_SCL (io) "Ball type: GPIO Default Mode: ALT5 Default Function: GPIO4_IO[8] Pull Down Value: 100K", K1 I2C1_SDA (io) "Ball type: GPIO Default Mode: ALT5 Default Function: GPIO4_IO[9] Pull Down Value: 100K", K2 I2C2_SCL (io) "Ball type: GPIO Default Mode: ALT5 Default Function: GPIO4_IO[10] Pull Down Value: 100K", K3 I2C2_SDA (io) "Ball type: GPIO Default Mode: ALT5 Default Function: GPIO4_IO[11] Pull Down Value: 100K", K5 I2C3_SCL (io) "Ball type: GPIO Default Mode: ALT5 Default Function: GPIO4_IO[12] Pull Down Value: 100K", K6 I2C3_SDA (io) "Ball type: GPIO Default Mode: ALT5 Default Function: GPIO4_IO[13] Pull Down Value: 100K", L1 I2C4_SCL (io) "Ball type: GPIO Default Mode: ALT5 Default Function: GPIO4_IO[14] Pull Down Value: 100K", L2 I2C4_SDA (io) "Ball type: GPIO Default Mode: ALT5 Default Function: GPIO4_IO[15] Pull Down Value: 100K", M8 NVCC_I2C (power) "Supply for I2C interface"
part R pins: G5 ECSPI1_MOSI (out) "Ball type: GPIO Default Mode: ALT5 Default Function: GPIO4_IO[17] Pull Down Value: 100K", G6 ECSPI2_MOSI (out) "Ball type: GPIO Default Mode: ALT5 Default Function: GPIO4_IO[21] Pull Down Value: 100K", H3 ECSPI1_SCLK (out) "Ball type: GPIO Default Mode: ALT5 Default Function: GPIO4_IO[16] Pull Down Value: 100K", H4 ECSPI1_MISO (in) "Ball type: GPIO Default Mode: ALT5 Default Function: GPIO4_IO[18] Pull Down Value: 100K", H5 ECSPI1_SS0 (out) "Ball type: GPIO Default Mode: ALT5 Default Function: GPIO4_IO[19] Pull Down Value: 100K", H6 ECSPI2_MISO (in) "Ball type: GPIO Default Mode: ALT5 Default Function: GPIO4_IO[22] Pull Down Value: 100K", J5 ECSPI2_SCLK (out) "Ball type: GPIO Default Mode: ALT5 Default Function: GPIO4_IO[20] Pull Down Value: 100K", J6 ECSPI2_SS0 (out) "Ball type: GPIO Default Mode: ALT5 Default Function: GPIO4_IO[23] Pull Down Value: 100K", L9 NVCC_SPI (power) "Supply for SPI interface"
part S pins: L3 UART1_RXD (in) "Ball type: GPIO Default Mode: ALT5 Default Function: GPIO4_IO[0] Pull Down Value: 100K", L4 UART1_TXD (out) "Ball type: GPIO Default Mode: ALT5 Default Function: GPIO4_IO[1] Pull Down Value: 100K", L5 UART2_RXD (in) "Ball type: GPIO Default Mode: ALT5 Default Function: GPIO4_IO[2] Pull Down Value: 100K", L6 UART2_TXD (out) "Ball type: GPIO Default Mode: ALT5 Default Function: GPIO4_IO[3] Pull Down Value: 100K", M1 UART3_RXD (in) "Ball type: GPIO Default Mode: ALT5 Default Function: GPIO4_IO[4] Pull Down Value: 100K", M2 UART3_TXD (out) "Ball type: GPIO Default Mode: ALT5 Default Function: GPIO4_IO[5] Pull Down Value: 100K", M5 UART3_RTS (in) "Ball type: GPIO Default Mode: ALT5 Default Function: GPIO4_IO[6] Pull Down Value: 100K", M6 UART3_CTS (out) "Ball type: GPIO Default Mode: ALT5 Default Function: GPIO4_IO[7] Pull Down Value: 100K", N9 NVCC_UART (power) "Supply for UART interface", R9 PVCC_I2C_SPI_UART_CAP (power) "Secondary supply for I2C_SPI_UART (internal regulator output). Requires external capacitors"
part T pins: AC3 VDDA_ADC1_1P8 (power) "Supply for ADC", AD1 ADC1_IN0 (in) "Ball type: ADC1 Default Function: ADC1_IN0", AD3 ADC1_IN1 (in) "Ball type: ADC1 Default Function: ADC1_IN1", AE2 ADC1_IN2 (in) "Ball type: ADC1 Default Function: ADC1_IN2", AE3 ADC1_IN3 (in) "Ball type: ADC1 Default Function: ADC1_IN3"
part U pins: AB1 ADC2_IN2 (in) "Default Function: ADC2_IN2", AB2 ADC2_IN3 (in) "Default Function: ADC2_IN3", AB3 VDDA_ADC2_1P8 (power) "Power", AC1 ADC2_IN0 (in) "Default Function: ADC2_IN0", AC2 ADC2_IN1 (in) "Default Function: ADC2_IN1"
part V pins: AC4 VDD_TEMPSENSOR_1P8 (in) "Supply for VDDe PHY", AD4 TEMPSENSOR_RESERVE (in) "Default Function: TEMPSENSOR_RESERVE", AE4 TEMPSENSOR_REXT (in) "Default Function: TEMPSENSOR_REXT"
part W pins: N1 GPIO1_IO00 (in) "Ball type: GPIO Default Mode: ALT0 Default Function: GPIO1_IO00 Pull UP Value: 100K", N2 GPIO1_IO01 (in) "Ball type: GPIO Default Mode: ALT0 Default Function: GPIO1_IO01 Pull Down Value: 100K", N3 GPIO1_IO02 (in) "Ball type: GPIO Default Mode: ALT0 Default Function: GPIO1_IO02 Pull Down Value: 100K", N5 GPIO1_IO03 (in) "Ball type: GPIO Default Mode: ALT0 Default Function: GPIO1_IO03 Pull Down Value: 100K", N6 GPIO1_IO04 (in) "Ball type: GPIO Default Mode: ALT0 Default Function: GPIO1_IO04 Pull Down Value: 100K", P1 GPIO1_IO05 (in) "Ball type: GPIO Default Mode: ALT0 Default Function: GPIO1_IO05 Pull Down Value: 100K", P2 GPIO1_IO06 (in) "Ball type: GPIO Default Mode: ALT0 Default Function: GPIO1_IO06 Pull Down Value: 100K", P3 GPIO1_IO07 (in) "Ball type: GPIO Default Mode: ALT0 Default Function: GPIO1_IO07 Pull Down Value: 100K", R1 GPIO1_IO08 (in) "Ball type: GPIO Default Mode: ALT0 Default Function: GPIO1_IO08 Pull Down Value: 100K", R2 GPIO1_IO09 (in) "Ball type: GPIO Default Mode: ALT0 Default Function: GPIO1_IO09 Pull Down Value: 100K", R5 GPIO1_IO10 (in) "Ball type: GPIO Default Mode: ALT0 Default Function: GPIO1_IO10 Pull Down Value: 100K", T1 GPIO1_IO11 (in) "Ball type: GPIO Default Mode: ALT0 Default Function: GPIO1_IO11 Pull Down Value: 100K", T2 GPIO1_IO12 (in) "Ball type: GPIO Default Mode: ALT0 Default Function: GPIO1_IO12 Pull Down Value: 100K", T3 GPIO1_IO13 (in) "Ball type: GPIO Default Mode: ALT0 Default Function: GPIO1_IO13 Pull Down Value: 100K", T5 GPIO1_IO14 (in) "Ball type: GPIO Default Mode: ALT0 Default Function: GPIO1_IO14 Pull Down Value: 100K", T6 GPIO1_IO15 (in) "Ball type: GPIO Default Mode: ALT0 Default Function: GPIO1_IO15 Pull Down Value: 100K"
part A text: i.MX7D - Power; ARM Supply; SOC Supply; LDO_1P0D; MIPI PHY; PCIe PHY; LDO_1P0A; PLL; LDO_1P2; USB PHY; eFuse; LDO_SNVS; PMIC PAD; TAMPER; Monitors; SNVS; 32K RTC; LDO_LPSR; LPSR Logic; GPIO1 PAD; GPIO2 PAD
part B text: i.MX7D - OTG1; LDO_USB1_1P0
part C text: i.MX7D - OTG2; LDO_USB2_1P0
part D text: i.MX7D - HSIC
part E text: i.MX7D - DRAM
part F text: i.MX7D - Control
part G text: i.MX7D - LCD
part H text: i.MX7D - EPDC
part I text: i.MX7D - SAI
part J text: i.MX7D - SD1
part K text: i.MX7D - SD2
part L text: i.MX7D - SD3
part M text: i.MX7D - ENET
part N text: i.MX7D - CSI
part O text: i.MX7D - DSI
part P text: i.MX7D - PCIe
part Q text: i.MX7D - I2C
part R text: i.MX7D - SPI
part S text: i.MX7D - UART
part T text: i.MX7D - ADC1
part U text: i.MX7D - ADC2
part V text: i.MX7D - Temp
part W text: i.MX7D - GPIO

## MCS04020C4999FE000
designator R?, comment 49.9
RES SMD 49.9 OHM 1% 1/10W 0402; Manufacturer: Vishay BCcomponents; Manufacturer Part Number: MCS04020C4999FE000; Temperature Coefficient: 50ppm/°C; Resistance: 49.9R; Max Power Dissipation: 100mW; Power Rating: 63mW; Voltage Rating: 50V; RoHS: Yes; Category: Chip SMD Resistors; Stock 1: 27900; Pricing 1: 1=0.26000, 10=0.22000, 100=0.08600, 1000=0.03600, 2500=0.03300, 5000=0.03000 (USD); Case/Package: 0402; Contact Plating: Tin; Weight: 2.3E-05oz; Case Code (Imperial): 0402; Case Code (Metric): 1005; Min Operating Temperature: -55°C; Max Operating Temperature: 125°C; Tolerance: 1%; Resistor Type: Thin Film; Packaging: Tape and Reel; Package Quantity: 10000; Termination: SMD/SMT; Number of Terminations: 2; Length: 1mm; Width: 0.5mm; Height: 0.015inch; Depth: 0.5mm; Radiation Hardening: No; Military Standard: Not; Lead Free: Lead Free; ComponentLink1URL: https://datasheet.ciiva.com/2575/mc-pro-2575459.pdf?src-supplier=Digi-Key; ComponentLink1Description: https://datasheet.ciiva.com/2575/mc-pro-2575459.pdf?src-supplier=Digi-Key; ComponentLink2URL: https://datasheet.ciiva.com/8900/mc-pro-8900101.pdf?src-supplier=Avnet; ComponentLink2Description: https://datasheet.ciiva.com/8900/mc-pro-8900101.pdf?src-supplier=Avnet; ComponentLink3URL: https://datasheet.ciiva.com/16892/mc-pro-16892870.pdf?src-supplier=Avnet+Europe; ComponentLink3Description: https://datasheet.ciiva.com/16892/mc-pro-16892870.pdf?src-supplier=Avnet+Europe; Supplier 1: Digi-Key; Supplier Part Number 1: 749-1585-1-ND
footprint R0402
pins: 1, 2

## MPL-SE4030-220
designator L?, comment 22u
FIXED IND 22UH 1.5A 219 MOHM SMD; Manufacturer: Monolithic Power Systems; Manufacturer Part Number: MPL-SE4030-220; RoHS: No; ComponentLink1Description: Datasheet; ComponentLink1URL: https://www.monolithicpower.com/en/documentview/productdocument/index/version/2/document_type/Datasheet/lang/en/sku/MPL-SE4030-220/document_id/5899/; Supplier 1: Digi-Key; Supplier Part Number 1: 1589-MPL-SE4030-220CT-ND; Supplier 2: Mouser; Supplier Part Number 2: 946-MPL-SE4030-220
footprint MPL-SE4030-220
pins: 1, 2

## MT41K256M16TW-107:P
designator U?
DRAM Chip DDR3L SDRAM 4G-Bit 256Mx16 1.35V 96 FBGA; Manufacturer: Micron Technology; Memory Type: RAM,SDRAM; Frequency: 933MHz; Access Time: 20ns; Interface: Parallel; Density: 4Gb; Address Bus Width: 15b; Data Bus Width: 16b; Manufacturer Part Number: MT41K256M16TW-107:P; RoHS: Yes; Category: RAM; Stock 1: 9431; Pricing 1: 1=4.98000, 10=4.51500, 25=4.41680, 40=4.39275, 80=3.93875, 230=3.92439, 440=3.78098, 1224=3.59456, 6120=3.19782 (USD); Mount: Surface Mount; Case/Package: FBGA; Contact Plating: Copper,Tin,Silver; Min Operating Temperature: 0°C; Max Operating Temperature: 95°C; Max Frequency: 933MHz; Operating Supply Voltage: 1.35V; ComponentLink1URL: http://www.farnell.com/datasheets/2712419.pdf?src-supplier=Farnell; ComponentLink1Description: http://www.farnell.com/datasheets/2712419.pdf?src-supplier=Farnell; ComponentLink2URL: https://www.micron.com/~/media/documents/products/data-sheet/dram/ddr3/4gb_ddr3l.pdf?src-supplier=Avnet+Asia; ComponentLink2Description: https://www.micron.com/~/media/documents/products/data-sheet/dram/ddr3/4gb_ddr3l.pdf?src-supplier=Avnet+Asia; ComponentLink3URL: https://www.micron.com/~/media/documents/products/data-sheet/dram/ddr3/4gb_ddr3l.pdf?src-supplier=Digi-Key; ComponentLink3Description: https://www.micron.com/~/media/documents/products/data-sheet/dram/ddr3/4gb_ddr3l.pdf?src-supplier=Digi-Key; ComponentLink4URL: http://www.farnell.com/datasheets/2712419.pdf?src-supplier=Newark; ComponentLink4Description: http://www.farnell.com/datasheets/2712419.pdf?src-supplier=Newark; ComponentLink5URL: https://www.micron.com/~/media/documents/products/data-sheet/dram/ddr3/4gb_ddr3l.pdf?src-supplier=Avnet; ComponentLink5Description: https://www.micron.com/~/media/documents/products/data-sheet/dram/ddr3/4gb_ddr3l.pdf?src-supplier=Avnet; Supplier 1: Digi-Key; Supplier Part Number 1: 557-1792-ND; Supplier 2: Newark; Supplier Part Number 2: 80AH8029; Supplier 3: Mouser; Supplier Part Number 3: 340-265846-TRAY
footprint 96xBGA DDR3L (BGA, 128-Leads, Body 8.00x14.00mmx1.20mm, Pitch 0.80mm)
ibis MT41K256M16TW (1866 34)
pins: A1 VDDQ1 (power) "Default Function: MIPI_VDDA_1P8", A2 DQ13 (io) "Default Function: MIPI_VDDA_1P8", A3 DQ15 (io) "Default Function: MIPI_VDDA_1P8", A7 DQ12 (io) "Default Function: MIPI_VDDA_1P8", A8 VDDQ2 (power) "Default Function: MIPI_VDDA_1P8", A9 VSS1 (power) "Default Function: MIPI_VDDA_1P8", B1 VSSQ1 (power) "Default Function: MIPI_VDDA_1P8", B2 VDD1 (power) "Default Function: MIPI_VDDA_1P8", B3 VSS2 (power) "Default Function: MIPI_VDDA_1P8", B7 ~{UDQ}S (io) "Default Function: MIPI_VDDA_1P8", B8 DQ14 (io) "Default Function: MIPI_VDDA_1P8", B9 VSSQ2 (power) "Default Function: MIPI_VDDA_1P8", C1 VDDQ3 (power) "Default Function: MIPI_VDDA_1P8", C2 DQ11 (io) "Default Function: MIPI_VDDA_1P8", C3 DQ9 (io) "Default Function: MIPI_VDDA_1P8", C7 UDQS (io) "Default Function: MIPI_VDDA_1P8", C8 DQ10 (io) "Default Function: MIPI_VDDA_1P8", C9 VDDQ4 (power) "Default Function: MIPI_VDDA_1P8", D1 VSSQ3 (power) "Default Function: MIPI_VDDA_1P8", D2 VDDQ5 (power) "Default Function: MIPI_VDDA_1P8", D3 UDM (in) "Default Function: MIPI_VDDA_1P8", D7 DQ8 (io) "Default Function: MIPI_VDDA_1P8", D8 VSSQ4 (power) "Default Function: MIPI_VDDA_1P8", D9 VDD2 (power) "Default Function: MIPI_VDDA_1P8", E1 VSS3 (power) "Default Function: MIPI_VDDA_1P8", E2 VSSQ5 (power) "Default Function: MIPI_VDDA_1P8", E3 DQ0 (io) "Default Function: MIPI_VDDA_1P8", E7 LDM (in) "Default Function: MIPI_VDDA_1P8", E8 VSSQ6 (power) "Default Function: MIPI_VDDA_1P8", E9 VDDQ6 (power) "Default Function: MIPI_VDDA_1P8", F1 VDDQ7 (power) "Default Function: MIPI_VDDA_1P8", F2 DQ2 (io) "Default Function: MIPI_VDDA_1P8", F3 LDQS (io) "Default Function: MIPI_VDDA_1P8", F7 DQ1 (io) "Default Function: MIPI_VDDA_1P8", F8 DQ3 (io) "Default Function: MIPI_VDDA_1P8", F9 VSSQ7 (power) "Default Function: MIPI_VDDA_1P8", G1 VSSQ8 (power) "Default Function: MIPI_VDDA_1P8", G2 DQ6 (io) "Default Function: MIPI_VDDA_1P8", G3 ~{LDQ}S (io) "Default Function: MIPI_VDDA_1P8", G7 VDD3 (power) "Default Function: MIPI_VDDA_1P8", G8 VSS4 (power) "Default Function: MIPI_VDDA_1P8", G9 VSSQ9 (power) "Default Function: MIPI_VDDA_1P8", H1 VREFDQ (in) "Default Function: MIPI_VDDA_1P8", H2 VDDQ8 (power) "Default Function: MIPI_VDDA_1P8", H3 DQ4 (io) "Default Function: MIPI_VDDA_1P8", H7 DQ7 (io) "Default Function: MIPI_VDDA_1P8", H8 DQ5 (io) "Default Function: MIPI_VDDA_1P8", H9 VDDQ9 (power) "Default Function: MIPI_VDDA_1P8", J1 NC_J1 "Default Function: MIPI_VDDA_1P8", J2 VSS5 (power) "Default Function: MIPI_VDDA_1P8", J3 ~{RAS} (in) "Default Function: MIPI_VDDA_1P8", J7 CK (in) "Default Function: MIPI_VDDA_1P8", J8 VSS6 (power) "Default Function: MIPI_VDDA_1P8", J9 NC_J9 "Default Function: MIPI_VDDA_1P8", K1 ODT (in) "Default Function: MIPI_VDDA_1P8", K2 VDD4 (power) "Default Function: MIPI_VDDA_1P8", K3 ~{CAS} (in) "Default Function: MIPI_VDDA_1P8", K7 ~{CK} (in) "Default Function: MIPI_VDDA_1P8", K8 VDD5 (power) "Default Function: MIPI_VDDA_1P8", K9 CKE (in) "Default Function: MIPI_VDDA_1P8", L1 NC_L1 "Default Function: MIPI_VDDA_1P8", L2 ~{CS} (in) "Default Function: MIPI_VDDA_1P8", L3 ~{WE} (in) "Default Function: MIPI_VDDA_1P8", L7 DRAM_ADDR10 (in) "Default Function: MIPI_VDDA_1P8", L8 ZQ (in) "Default Function: MIPI_VDDA_1P8", L9 NC_L9 "Default Function: MIPI_VDDA_1P8", M1 VSS7 (power) "Default Function: MIPI_VDDA_1P8", M2 DRAM_SDBA0 (in) "Default Function: MIPI_VDDA_1P8", M3 DRAM_SDBA2 (in) "Default Function: MIPI_VDDA_1P8", M7 NC_M7 "Default Function: MIPI_VDDA_1P8", M8 VREFCA (in) "Default Function: MIPI_VDDA_1P8", M9 VSS8 (power) "Default Function: MIPI_VDDA_1P8", N1 VDD6 (power) "Default Function: MIPI_VDDA_1P8", N2 DRAM_ADDR3 (in) "Default Function: MIPI_VDDA_1P8", N3 DRAM_ADDR0 (in) "Default Function: MIPI_VDDA_1P8", N7 DRAM_ADDR12 (in) "Default Function: MIPI_VDDA_1P8", N8 DRAM_SDBA1 (in) "Default Function: MIPI_VDDA_1P8", N9 VDD7 (power) "Default Function: MIPI_VDDA_1P8", P1 VSS9 (power) "Default Function: MIPI_VDDA_1P8", P2 DRAM_ADDR5 (in) "Default Function: MIPI_VDDA_1P8", P3 DRAM_ADDR2 (in) "Default Function: MIPI_VDDA_1P8", P7 DRAM_ADDR1 (in) "Default Function: MIPI_VDDA_1P8", P8 DRAM_ADDR4 (in) "Default Function: MIPI_VDDA_1P8", P9 VSS10 (power) "Default Function: MIPI_VDDA_1P8", R1 VDD8 (power) "Default Function: MIPI_VDDA_1P8", R2 DRAM_ADDR7 (in) "Default Function: MIPI_VDDA_1P8", R3 DRAM_ADDR9 (in) "Default Function: MIPI_VDDA_1P8", R7 DRAM_ADDR11 (in) "Default Function: MIPI_VDDA_1P8", R8 DRAM_ADDR6 (in) "Default Function: MIPI_VDDA_1P8", R9 VDD9 (power) "Default Function: MIPI_VDDA_1P8", T1 VSS11 (power) "Default Function: MIPI_VDDA_1P8", T2 ~{RESET} (in) "Default Function: MIPI_VDDA_1P8", T3 DRAM_ADDR13 (in) "Default Function: MIPI_VDDA_1P8", T7 DRAM_ADDR14 (in) "Default Function: MIPI_VDDA_1P8", T8 DRAM_ADDR8 (in) "Default Function: MIPI_VDDA_1P8", T9 VSS12 (power) "Default Function: MIPI_VDDA_1P8"
text: 512MB 256x16 DDR3L

## PH1-04-UA
designator J?, comment 4x1 2.54mm
Conn Unshrouded Header HDR 4 POS 2.54mm Solder ST Thru-Hole Bag; Manufacturer: Adam Equipment; Manufacturer Part Number: PH1-04-UA; Number of Positions: 4; Supplier 1: Digi-Key; Supplier Part Number 1: 2057-PH1-04-UA-ND; RoHS: Yes; Category: Connectors; Stock 1: 1152; Pricing 1: 1=0.10000, 10=0.07200, 100=0.04440, 500=0.03672, 1000=0.03213, 5000=0.02754, 10000=0.02678 (USD); Termination: Through Hole; Pitch: 2.54mm; Lead Free: Lead Free; ComponentLink1URL: http://www.adam-tech.com/catalog/2010/page_292-295.pdf?src-supplier=Future+Electronics; ComponentLink1Description: http://www.adam-tech.com/catalog/2010/page_292-295.pdf?src-supplier=Future+Electronics; ComponentLink2Description: Datasheet; ComponentLink2URL: https://static6.arrow.com/aropdfconversion/683efa088b5c0b1a8da3df70e12f05ed3743b8bf/page_292.pdf; ComponentLink3Description: Mechanical drawing; ComponentLink3URL: http://www.adam-tech.com/upload/PH1-XX-UA.pdf
footprint PH1-04-UA
pins: 1, 2, 3, 4

## PJ-047AH
designator J?, comment 2.1x5.5mm
CONN PWR JACK 2.1X5.5MM SOLDER; Manufacturer: CUI; Manufacturer Part Number: PJ-047AH; Gender: Male; Shielding: Shielded; Current Rating: 5A; Number of Conductors: 2; Voltage Rating: 24V; Insulation Resistance: 100MR; RoHS: Yes; Category: Connectors; Stock 1: 4559; Pricing 1: 1=0.80000, 10=0.70100, 25=0.66000, 50=0.63260, 100=0.60500, 250=0.55000, 500=0.49500, 1000=0.44000, 2500=0.39875 (USD); Mount: Through Hole; Color: Black; Contact Material: Copper,Brass; Contact Plating: Nickel; Housing Color: Black; Housing Material: Thermoplastic; Min Operating Temperature: -25°C; Max Operating Temperature: 85°C; Termination: Solder; Connector Type: Jack; Package Quantity: 500; Contact Gender: Male; Orientation: Horizontal; Series: -; Lead Free: Lead Free; Flammability Rating: UL94 V-0; RoHS Compliant: Yes; ComponentLink1URL: http://www.mouser.com/ds/2/670/PJ-047AH-524157.pdf?src-supplier=Mouser; ComponentLink1Description: http://www.mouser.com/ds/2/670/PJ-047AH-524157.pdf?src-supplier=Mouser; ComponentLink2URL: https://www.cui.com/product/resource/digikeypdf/pj-047ah.pdf?src-supplier=Digi-Key; ComponentLink2Description: https://www.cui.com/product/resource/digikeypdf/pj-047ah.pdf?src-supplier=Digi-Key; Supplier 1: Digi-Key; Supplier Part Number 1: CP-047AH-ND; Supplier 2: Digi-Key; Supplier Part Number 2: CP-047A-ND; Supplier 3: Arrow Electronics; Supplier Part Number 3: PJ-047A; Supplier 4: Mouser; Supplier Part Number 4: 490-PJ-047A
footprint PJ-047AH
pins: 1, 2, 3, S1 SHIELD1, S2 SHIELD2